# Altium schematic symbol library Reg_IFX.SchLib: 1 symbol
Pins are listed as number, name and electrical type; pins without a type are passive.

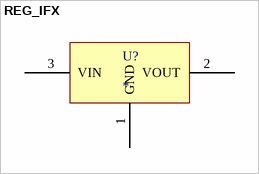
[diagram p0: symbol REG_IFX]

## REG_IFX
designator U?
footprint Reg_IFX
pins: 1 GND, 2 VOUT, 3 VIN